# EAGLE library part 634108185421 (library WR-MJ)
WR-MJ Cat 3 Modular Jacks – SMT Characteristics Shieldingless and Shielded with EMI-Spring option Optional LEDs in various sequences Vertical and Horizontal orientation Tape & Reel packaging for pick-and-place assembly Properties PoE++ Compatible up to 100W (IEEE 802.3bt) UL and cULus-Certified UL94-V0 reflow-compatible insulator material Ethernet Category 3 – Category 5 under conditions Applications Networks Internet of Things Smart Buildings <https://www.we-online.com/components/media/o60696v209%20Multi-WR-MJSM-634008149821.jpg> Details see: www.we-online.com/en/components/products/WR_MJ_MODULAR_JACKS_SMT <www.we-online.com/catalog/WR_MJ_MODULAR_JACKS_SMT/?utm_source=eagle_model&utm_medium=description_link&utm_campaign=eisos_eagle> Updated by Yingchun Shan 2020-01-03 2020(C) Würth Elektronik
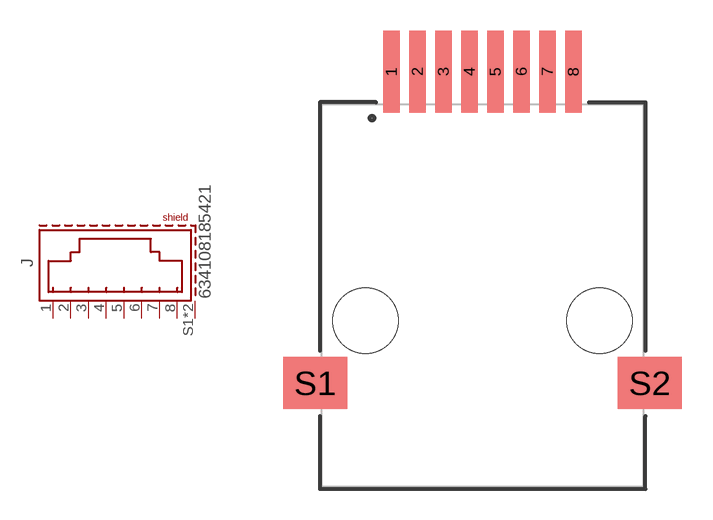
[diagram p27: symbol with the pads of 634108185421; footprint 634108185421]

Designator prefix J

## 634108185421 (APPLICATION-SYSTEM: CAT 3; DATASHEET-URL: https://www.we-online.com/redexpert/spec/634108185421?ae; EMI: No; LED: /; MOUNT: SMT; PART-NUMBER: 634108185421; SIZE: Horizontal; TAB: Down; VALUE: 634108185421; XPXC: 8P8C)  [634108185421]
1  8  pas
2  7  pas
3  6  pas
4  5  pas
5  4  pas
6  3  pas
7  2  pas
8  1  pas
S1  SHIELD  pas
S2  SHIELD  pas

## Footprint 634108185421 (pad centres in mm)
WR-MJ Modular Jack Horizontal Shielded SMT 8P8C Tab Down
smd 0.8 x 4: 1 -4.445,10.95; 2 -3.175,10.95; 3 -1.905,10.95; 4 -0.635,10.95; 5 0.635,10.95; 6 1.905,10.95; 7 3.175,10.95; 8 4.445,10.95
smd 3.12 x 2.54: S1 -8.175,-4.27; S2 8.175,-4.27
hole 3.2 at -5.715,-1.22
hole 3.2 at 5.715,-1.22